# Altium footprint library FootPrintLib_5.PCBLIB: 254 footprints (part 5 of 16)
Each footprint in its own frame and in the unit in brackets; x right, y up, seen from the top. Pads: shape width x height; smd on the part's side, far side on the other; paste and mask are expansions set on the pad; w line width, h text height; cw(c..) or ccw(c..) is an arc to the next point about the centre after c.
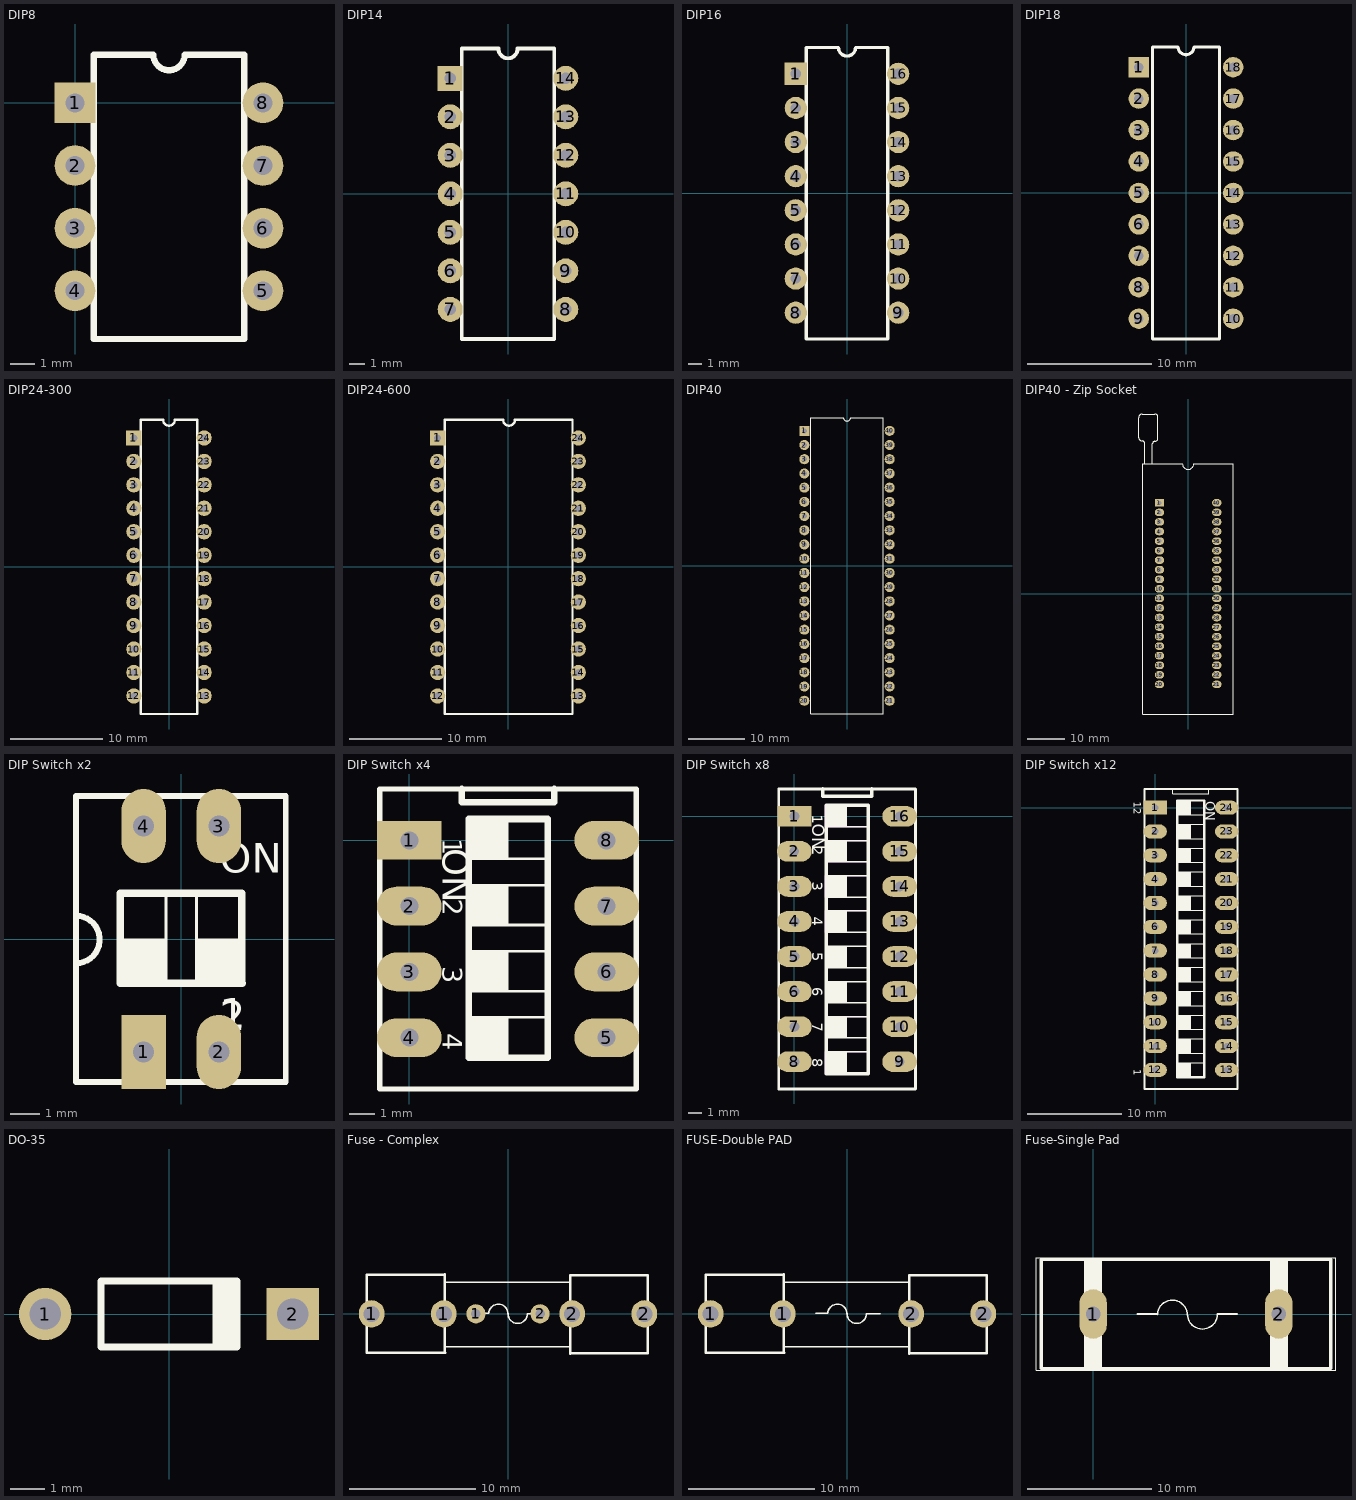
[diagram p4: the footprints below, top view; thin cyan lines are the x and y axes]

## DIP8 [mil]
pads (8):
  rect 65x65 hole 30: 1(0,0)
  round 65 hole 30: 2(0,-100) 3(0,-200) 4(0,-300) 5(300,-300) 6(300,-200) 7(300,-100) 8(300,0)
Top Overlay:
  lines w10: 30,-377 270,-377 270,77 175,77 cw(c150,77) 125,77 30,77 30,-377
3D body "SW3DPS-DIP8-DEFAULT.step": height 165, standoff -105, extent -5,-375 305,75

## DIP14 [mil]
pads (14):
  rect 65x65 hole 30: 1(-150,300)
  round 65 hole 30: 2(-150,200) 3(-150,100) 4(-150,0) 5(-150,-100) 6(-150,-200) 7(-150,-300) 8(150,-300) 9(150,-200) 10(150,-100) 11(150,0) 12(150,100) 13(150,200) 14(150,300)
Top Overlay:
  lines w10: -120,-377 120,-377 120,377 25,377 cw(c0,377) -25,377 -120,377 -120,-377
3D body "SW3dPS-DIP14-300.step": height 200, standoff -98.03, extent -154.92,-383.86 154.92,383.86

## DIP16 [mil]
pads (16):
  rect 65x65 hole 30: 1(-150,350)
  round 65 hole 30: 2(-150,250) 3(-150,150) 4(-150,50) 5(-150,-50) 6(-150,-150) 7(-150,-250) 8(-150,-350) 9(150,-350) 10(150,-250) 11(150,-150) 12(150,-50) 13(150,50) 14(150,150) 15(150,250) 16(150,350)
Top Overlay:
  lines w10: -120,-427 120,-427 120,427 25,427 cw(c0,427) -25,427 -120,427 -120,-427
3D body "SW3dPS-DIP16-300.step": height 200, standoff -98.03, extent -154.92,-393.7 154.92,393.7

## DIP18 [mil]
pads (18):
  rect 65x65 hole 30: 1(-150,400)
  round 65 hole 30: 2(-150,300) 3(-150,200) 4(-150,100) 5(-150,0) 6(-150,-100) 7(-150,-200) 8(-150,-300) 9(-150,-400) 10(150,-400) 11(150,-300) 12(150,-200) 13(150,-100) 14(150,0) 15(150,100) 16(150,200) 17(150,300) 18(150,400)
Top Overlay:
  lines w10: -106.3,-464.57 106.3,-464.57 106.3,464.57 25,464.57 cw(c0,464.57) -25,464.57 -106.3,464.57 -106.3,-464.57
3D body "SW3dPS-DIP18-300.step": height 200, standoff -98.03, extent -154.92,-452.56 154.92,452.56

## DIP24-300 [mil]
pads (24):
  rect 65x65 hole 30: 1(-150,550)
  round 65 hole 30: 2(-150,450) 3(-150,350) 4(-150,250) 5(-150,150) 6(-150,50) 7(-150,-50) 8(-150,-150) 9(-150,-250) 10(-150,-350) 11(-150,-450) 12(-150,-550) 13(150,-550) 14(150,-450) 15(150,-350) 16(150,-250) 17(150,-150) 18(150,-50) 19(150,50) 20(150,150) 21(150,250) 22(150,350) 23(150,450) 24(150,550)
Top Overlay:
  lines w10: -120,-627 120,-627 120,627 25,627 cw(c0,627) -25,627 -120,627 -120,-627
3D body "SW3dPS-DIP24-300.step": height 200, standoff -98.03, extent -154.92,-635.04 154.92,635.04

## DIP24-600 [mil]
pads (24):
  rect 65x65 hole 30: 1(-300,550)
  round 65 hole 30: 2(-300,450) 3(-300,350) 4(-300,250) 5(-300,150) 6(-300,50) 7(-300,-50) 8(-300,-150) 9(-300,-250) 10(-300,-350) 11(-300,-450) 12(-300,-550) 13(300,-550) 14(300,-450) 15(300,-350) 16(300,-250) 17(300,-150) 18(300,-50) 19(300,50) 20(300,150) 21(300,250) 22(300,350) 23(300,450) 24(300,550)
Top Overlay:
  lines w10: -21.47,627 -270,627 -270,-627 275,-627 275,627 29.47,627 cw(c4.47,626.98) -20.53,626.98
3D body "SW3dPS-DIP24-600.step": height 224.41, standoff -101.57, extent -304.92,-635.04 304.92,635.04

## DIP40 [mm]
pads (40):
  rect 1.8x1.8 hole 0.9: 1(-7.62,24.13)
  round 1.8 hole 0.9: 2(-7.62,21.59) 3(-7.62,19.05) 4(-7.62,16.51) 5(-7.62,13.97) 6(-7.62,11.43) 7(-7.62,8.89) 8(-7.62,6.35) 9(-7.62,3.81) 10(-7.62,1.27) 11(-7.62,-1.27) 12(-7.62,-3.81) 13(-7.62,-6.35) 14(-7.62,-8.89) 15(-7.62,-11.43) 16(-7.62,-13.97) 17(-7.62,-16.51) 18(-7.62,-19.05) 19(-7.62,-21.59) 20(-7.62,-24.13) 21(7.62,-24.13) 22(7.62,-21.59) 23(7.62,-19.05) 24(7.62,-16.51) 25(7.62,-13.97) 26(7.62,-11.43) 27(7.62,-8.89) 28(7.62,-6.35) 29(7.62,-3.81) 30(7.62,-1.27) 31(7.62,1.27) 32(7.62,3.81) 33(7.62,6.35) 34(7.62,8.89) 35(7.62,11.43) 36(7.62,13.97) 37(7.62,16.51) 38(7.62,19.05) 39(7.62,21.59) 40(7.62,24.13)
Top Overlay:
  lines w0.2: -6.45,-26.5 -6.45,26.5 -0.635,26.5 ccw(c0,26.5) 0.635,26.5 6.45,26.5 6.45,-26.5 -6.45,-26.5
3D body "SW3dPS-DIP40-600.step": height 5.7, standoff -2.58, extent -7.745,-26.225 7.745,26.225

## DIP40 - Zip Socket [mm]
pads (40):
  rect 2.5x2 hole 1.1: 1(-7.62,24.13)
  oval 2.5x2 hole 1.1: 2(-7.62,21.59) 3(-7.62,19.05) 4(-7.62,16.51) 5(-7.62,13.97) 6(-7.62,11.43) 7(-7.62,8.89) 8(-7.62,6.35) 9(-7.62,3.81) 10(-7.62,1.27) 11(-7.62,-1.27) 12(-7.62,-3.81) 13(-7.62,-6.35) 14(-7.62,-8.89) 15(-7.62,-11.43) 16(-7.62,-13.97) 17(-7.62,-16.51) 18(-7.62,-19.05) 19(-7.62,-21.59) 20(-7.62,-24.13) 21(7.62,-24.13) 22(7.62,-21.59) 23(7.62,-19.05) 24(7.62,-16.51) 25(7.62,-13.97) 26(7.62,-11.43) 27(7.62,-8.89) 28(7.62,-6.35) 29(7.62,-3.81) 30(7.62,-1.27) 31(7.62,1.27) 32(7.62,3.81) 33(7.62,6.35) 34(7.62,8.89) 35(7.62,11.43) 36(7.62,13.97) 37(7.62,16.51) 38(7.62,19.05) 39(7.62,21.59) 40(7.62,24.13)
Top Overlay:
  lines w0.2: -11.557,34.5 -11.557,39.903 ccw(c-12.243,39.903) -12.243,40.589 cw(c-12.243,41.478) -13.132,41.478 -13.132,46.812 cw(c-12.198,46.812) -12.198,47.746 -8.808,47.746 cw(c-8.808,46.965) -8.026,46.965 -8.026,41.269 cw(c-8.808,41.269) -8.808,40.488 ccw(c-8.808,39.795) -9.5,39.795 -9.5,34.5 ; -12,-32 12,-32 12,34.5 1.5,34.5 cw(c0,34.5) -1.5,34.5 -12,34.5 -12,-32
3D body "Zif-Zip Socket.STEP": height 21.95, standoff -2.53, extent -12.975,-31.475 11.501,41.579

## DIP Switch x2 [mm]
height 6.5
pads (4):
  rect 1.5x2.5 hole 0.7: 1(-1.27,-3.81)
  oval 1.5x2.5 hole 0.7: 2(1.27,-3.81) 3(1.27,3.81) 4(-1.27,3.81)
Top Overlay:
  region: 2.056,-1.5 2.056,0.025 0.5,0.025 0.5,-1.5
  region: -0.494,-1.5 -0.494,0.025 -2.05,0.025 -2.05,-1.5
  lines w0.1: -0.51,-1.47 -0.51,1.55 ; 0.51,-1.47 0.51,1.55
  lines w0.2: -3.55,-0.818 ccw(c-3.55,-0.018) -3.55,0.783 ; 3.5,-4.82 -3.55,-4.82 -3.55,4.83 3.5,4.83 ; 3.525,-4.82 3.525,4.83
  lines w0.25: 2.04,-1.47 2.04,1.55
  lines w0.254: 2.04,1.55 -2.05,1.55 -2.05,-1.5 2.056,-1.5
  text "2" at 1.295,-3.08 h1
  text "1" at 1.295,-3 h1
  text "ON" at 1.295,2.23 h1
3D body "dip2.STEP": height 6.91, standoff -1.79, extent -3.25,-5.03 3.25,4.97

## DIP Switch x4 [mm]
height 6.5
pads (8):
  rect 2.5x1.5 hole 0.7: 1(0,0)
  oval 2.5x1.5 hole 0.7: 2(0,-2.54) 3(0,-5.08) 4(0,-7.62) 5(7.62,-7.62) 6(7.62,-5.08) 7(7.62,-2.54) 8(7.62,0)
Top Overlay:
  rectangle: 2.297,-0.734 3.822,0.822
  rectangle: 2.297,-3.284 3.822,-1.728
  rectangle: 2.297,-5.84 3.822,-4.284
  rectangle: 2.297,-8.394 3.822,-6.838
  lines w0.1: 2.327,-6.828 5.347,-6.828 ; 2.327,-5.828 5.347,-5.828 ; 2.327,-4.288 5.347,-4.288 ; 2.327,-3.268 5.347,-3.268 ; 2.327,-1.738 5.347,-1.738 ; 2.327,-0.718 5.347,-0.718
  lines w0.2: -1.143,-9.601 -1.143,1.981 8.763,1.981 8.763,-9.601 -1.143,-9.601
  lines w0.25: 2.297,-8.394 5.347,-8.388
  lines w0.254: 2.032,1.981 2.032,1.473 5.588,1.473 5.588,1.981 ; 2.297,-8.394 2.297,0.822 5.347,0.822 5.347,-8.388
  text "ON" at 1.295,-0.313 h1
  text "1" at 1.295,0.076 h0.76
  text "2" at 1.295,-2.261 h0.76
  text "3" at 1.295,-4.853 h0.76
  text "4" at 1.295,-7.444 h0.76
Mechanical 1:
  circle w0.025: c7.62,0 r0.254
  circle w0.025: c7.62,-2.54 r0.254
  circle w0.025: c7.62,-5.08 r0.254
  circle w0.025: c7.62,-7.62 r0.254
  circle w0.025: c0,-7.62 r0.254
  circle w0.025: c0,-5.08 r0.254
  circle w0.025: c-0.01,-2.54 r0.254
  circle w0.025: c0,0 r0.254
3D body: height 6.35, standoff 0.25, extent 2.362,-3.302 3.073,-1.778
3D body: height 5.08, standoff 0.25, extent 3.073,-3.302 5.253,-1.778
3D body: height 5.59, standoff 0, extent 2.362,-4.318 5.253,-3.302
3D body: height 5.59, standoff 0, extent 2.362,-6.858 5.253,-5.842
3D body: height 5.59, standoff 0, extent 2.362,-1.778 5.253,-0.762
3D body: height 5.59, standoff 0, extent 2.362,0.762 5.253,1.473
3D body: height 6.35, standoff 0.25, extent 2.362,-8.382 3.073,-6.858
3D body: height 5.08, standoff 0.25, extent 3.073,-8.382 5.253,-6.858
3D body: height 6.35, standoff 0.25, extent 2.362,-5.842 3.073,-4.318
3D body: height 5.08, standoff 0.25, extent 3.073,-5.842 5.253,-4.318
3D body: height 5.08, standoff 0.25, extent 3.073,-0.762 5.253,0.762
3D body: height 0.25, standoff 0.05, extent -1.143,-9.652 8.763,1.981
3D body: height 5.59, standoff 0, extent -1.143,-9.652 8.763,1.981
3D body: height 3.81, standoff 0, extent 1.9,1.473 5.71,1.981
3D body: height 0.76, standoff 0, extent -0.253,-7.873 0.253,-7.367
3D body: height 0.76, standoff 0, extent -0.253,-5.333 0.253,-4.827
3D body: height 0.76, standoff 0, extent -0.263,-2.793 0.243,-2.287
3D body: height 0.76, standoff 0, extent -0.253,-0.253 0.253,0.253
3D body: height 0.76, standoff 0, extent 7.367,-7.873 7.873,-7.367
3D body: height 0.76, standoff 0, extent 7.367,-5.333 7.873,-4.827
3D body: height 0.76, standoff 0, extent 7.367,-2.793 7.873,-2.287
3D body: height 0.76, standoff 0, extent 7.367,-0.253 7.873,0.253
3D body: height 6.35, standoff 0.25, extent 2.362,-0.762 3.073,0.762
3D body: height 5.59, standoff 0.25, extent 5.986,-2.3 7.537,-0.734
3D body: height 5.59, standoff 0.03, extent 6.06,-0.189 7.478,0.618
3D body: height 5.59, standoff 0.25, extent 5.975,-0.597 7.55,1.021

## DIP Switch x8 [mm]
height 6.5
pads (16):
  rect 2.5x1.5 hole 0.7: 1(0,0)
  oval 2.5x1.5 hole 0.7: 2(-0.01,-2.54) 3(0,-5.08) 4(0,-7.62) 5(0,-10.16) 6(0,-12.7) 7(0,-15.24) 8(0,-17.78) 9(7.62,-17.78) 10(7.62,-15.24) 11(7.62,-12.7) 12(7.62,-10.16) 13(7.62,-7.62) 14(7.62,-5.08) 15(7.62,-2.54) 16(7.62,0)
Top Overlay:
  rectangle: 2.297,-0.759 3.822,0.797
  rectangle: 2.297,-3.309 3.822,-1.753
  rectangle: 2.297,-5.866 3.822,-4.309
  rectangle: 2.297,-8.419 3.822,-6.863
  rectangle: 2.297,-10.969 3.822,-9.413
  rectangle: 2.297,-13.519 3.822,-11.963
  rectangle: 2.297,-16.079 3.822,-14.523
  rectangle: 2.297,-18.629 3.822,-17.073
  lines w0.1: 2.327,-17.073 5.347,-17.073 ; 2.327,-16.063 5.347,-16.063 ; 2.327,-14.533 5.347,-14.533 ; 2.327,-13.503 5.347,-13.503 ; 2.327,-11.973 5.347,-11.973 ; 2.327,-10.963 5.347,-10.963 ; 2.327,-9.423 5.347,-9.423 ; 2.327,-8.413 5.347,-8.413 ; 2.327,-6.853 5.347,-6.853 ; 2.327,-5.853 5.347,-5.853 ; 2.327,-4.313 5.347,-4.313 ; 2.327,-3.293 5.347,-3.293 ; 2.327,-1.763 5.347,-1.763 ; 2.327,-0.743 5.347,-0.743
  lines w0.2: -1.143,-19.761 8.763,-19.761 8.763,1.981 -1.143,1.981 -1.143,-19.761
  lines w0.254: 2.032,1.981 2.032,1.473 5.588,1.473 5.588,1.981 ; 2.297,-18.653 2.297,0.797 5.347,0.797 5.347,-18.653 2.297,-18.653
  text "ON" at 1.295,-0.542 h0.89
  text "1" at 1.295,0.101 h0.76
  text "2" at 1.295,-2.163 h0.76
  text "3" at 1.295,-4.723 h0.76
  text "4" at 1.295,-7.284 h0.76
  text "5" at 1.295,-9.844 h0.76
  text "6" at 1.295,-12.405 h0.76
  text "7" at 1.295,-14.965 h0.76
  text "8" at 1.295,-17.526 h0.76
Mechanical 1:
  circle w0.025: c0,0 r0.254
  circle w0.025: c7.62,0 r0.254
  circle w0.025: c7.62,-2.54 r0.254
  circle w0.025: c-0.01,-2.54 r0.254
  circle w0.025: c0,-5.08 r0.254
  circle w0.025: c7.62,-5.08 r0.254
  circle w0.025: c7.62,-7.62 r0.254
  circle w0.025: c0,-7.62 r0.254
  circle w0.025: c0,-10.16 r0.254
  circle w0.025: c7.62,-10.16 r0.254
  circle w0.025: c7.62,-12.7 r0.254
  circle w0.025: c0,-12.7 r0.254
  circle w0.025: c0,-15.24 r0.254
  circle w0.025: c7.62,-15.24 r0.254
  circle w0.025: c7.62,-17.78 r0.254
  circle w0.025: c0,-17.78 r0.254
  lines w0.025: 5.309,-11.938 5.309,-13.487 2.261,-13.487 2.261,-11.938 5.359,-11.938 ; 5.309,-6.833 5.309,-8.407 2.235,-8.407 2.235,-6.833 5.359,-6.833 ; 5.334,-17.069 5.334,-18.694 2.235,-18.694 2.235,-17.069 5.359,-17.069 ; 5.334,-14.529 2.261,-14.529 2.261,-16.027 5.359,-16.027 5.359,-14.529 ; 5.334,-4.318 5.334,-5.867 2.235,-5.867 2.235,-4.318 5.359,-4.318 ; 5.334,-0.762 5.41,-0.762 5.41,0.813 2.235,0.813 2.235,-0.762 5.359,-0.762 ; 5.359,-9.423 5.359,-10.947 2.261,-10.947 2.261,-9.423 5.385,-9.423 ; -1.143,-19.761 8.763,-19.761 8.763,1.981 -1.143,1.981 -1.143,-19.761 ; 2.032,1.473 5.588,1.473 5.588,1.981 2.032,1.981 2.032,1.473 ; 2.261,-3.302 5.334,-3.302 5.334,-1.778 2.261,-1.778 2.261,-3.302
3D body: height 5.59, standoff 0, extent 2.235,-19.761 5.41,-18.693
3D body: height 5.59, standoff 0, extent 2.236,-17.069 5.411,-16.154
3D body: height 5.59, standoff 0, extent 2.261,-14.529 5.436,-13.487
3D body: height 5.59, standoff 0, extent 2.262,-11.938 5.437,-11.048
3D body: height 5.59, standoff 0, extent 2.236,-9.423 5.411,-8.407
3D body: height 5.59, standoff 0, extent 2.236,-6.832 5.411,-5.866
3D body: height 5.59, standoff 0, extent 2.236,-4.318 5.411,-3.403
3D body: height 5.59, standoff 0, extent 2.235,-1.778 5.41,-0.762
3D body: height 5.59, standoff 0, extent 2.235,0.813 5.41,1.473
3D body: height 5.59, standoff 0, extent 5.41,-19.761 8.763,1.981
3D body: height 5.59, standoff 0, extent -1.143,-19.761 2.236,1.981
3D body: height 3.81, standoff 0, extent 2.032,1.473 5.613,1.981
3D body: height 0.76, standoff 0, extent 7.367,-2.793 7.873,-2.287
3D body: height 0.76, standoff 0, extent 7.367,-5.333 7.873,-4.827
3D body: height 0.76, standoff 0, extent 7.367,-7.873 7.873,-7.367
3D body: height 0.76, standoff 0, extent 7.367,-0.253 7.873,0.253
3D body: height 0.76, standoff 0, extent 7.367,-18.033 7.873,-17.527
3D body: height 0.76, standoff 0, extent 7.367,-12.953 7.873,-12.447
3D body: height 0.76, standoff 0, extent 7.367,-15.493 7.873,-14.987
3D body: height 5.08, standoff 0, extent 2.236,-5.866 5.334,-4.318
3D body: height 0.76, standoff 0, extent -0.253,-0.253 0.253,0.253
3D body: height 0.76, standoff 0, extent -0.263,-2.793 0.243,-2.287
3D body: height 0.76, standoff 0, extent -0.253,-5.333 0.253,-4.827
3D body: height 0.76, standoff 0, extent -0.253,-7.873 0.253,-7.367
3D body: height 5.08, standoff 0, extent 2.339,-8.405 5.411,-6.832
3D body: height 5.08, standoff 0, extent 2.26,-16.028 5.36,-14.528
3D body: height 5.08, standoff 0, extent 2.313,-18.693 5.411,-17.069
3D body: height 0.76, standoff 0, extent -0.253,-10.413 0.253,-9.907
3D body: height 0.76, standoff 0, extent -0.253,-12.953 0.253,-12.447
3D body: height 0.76, standoff 0, extent -0.253,-15.493 0.253,-14.987
3D body: height 0.76, standoff 0, extent -0.253,-18.033 0.253,-17.527
3D body: height 5.08, standoff 0, extent 2.338,-16.153 5.436,-14.529
3D body: height 5.08, standoff 0, extent 2.339,-13.563 5.437,-11.938
3D body: height 5.08, standoff 0, extent 2.262,-11.048 5.359,-9.423
3D body: height 5.08, standoff 0, extent 2.312,-3.403 5.41,-1.778
3D body: height 5.08, standoff 0, extent 2.312,-0.812 5.41,0.813
3D body: height 6.35, standoff 0, extent 2.235,-0.812 3.759,0.813
3D body: height 6.35, standoff 0, extent 2.261,-3.403 3.785,-1.778
3D body: height 6.35, standoff 0, extent 2.236,-5.943 3.76,-4.318
3D body: height 6.35, standoff 0, extent 2.236,-8.457 3.76,-6.833
3D body: height 6.35, standoff 0, extent 2.262,-11.048 3.786,-9.423
3D body: height 6.35, standoff 0, extent 2.261,-13.563 3.785,-11.938
3D body: height 6.35, standoff 0, extent 2.236,-16.154 3.76,-14.529
3D body: height 6.35, standoff 0, extent 2.235,-18.693 3.759,-17.069

## DIP Switch x12 [mm]
pads (24):
  rect 2.5x1.5 hole 0.7: 1(0,0)
  oval 2.5x1.5 hole 0.7: 2(0,-2.54) 3(0,-5.08) 4(0,-7.62) 5(0,-10.16) 6(0,-12.7) 7(0,-15.24) 8(0,-17.78) 9(0,-20.32) 10(0,-22.86) 11(0,-25.4) 12(0,-27.94) 13(7.62,-27.94) 14(7.62,-25.4) 15(7.62,-22.86) 16(7.62,-20.32) 17(7.62,-17.78) 18(7.62,-15.24) 19(7.62,-12.7) 20(7.62,-10.16) 21(7.62,-7.62) 22(7.62,-5.08) 23(7.62,-2.54) 24(7.62,0)
Top Overlay:
  region: 3.808,-27.178 2.362,-27.178 2.362,-28.702 3.808,-28.702
  region: 3.808,-24.638 2.362,-24.638 2.362,-26.162 3.808,-26.162
  region: 3.808,-22.098 2.362,-22.098 2.362,-23.622 3.808,-23.622
  region: 3.808,-19.558 2.362,-19.558 2.362,-21.082 3.808,-21.082
  region: 3.808,-17.018 2.362,-17.018 2.362,-18.542 3.808,-18.542
  region: 3.808,-14.478 2.362,-14.478 2.362,-16.002 3.808,-16.002
  region: 3.808,-11.938 2.362,-11.938 2.362,-13.462 3.808,-13.462
  region: 3.808,-9.398 2.362,-9.398 2.362,-10.922 3.808,-10.922
  region: 3.808,-6.858 2.362,-6.858 2.362,-8.382 3.808,-8.382
  region: 3.808,-4.318 2.362,-4.318 2.362,-5.842 3.808,-5.842
  region: 3.808,-1.778 2.362,-1.778 2.362,-3.302 3.808,-3.302
  region: 3.808,0.762 2.362,0.762 2.362,-0.762 3.808,-0.762
  lines w0.1: 2.362,-28.702 5.253,-28.702 ; 2.362,-27.178 5.253,-27.178 ; 2.362,-26.162 5.253,-26.162 ; 2.362,-24.638 5.253,-24.638 ; 2.362,-23.622 5.253,-23.622 ; 2.362,-22.098 5.253,-22.098 ; 2.362,-21.082 5.253,-21.082 ; 2.362,-19.558 5.253,-19.558 ; 2.362,-18.542 5.253,-18.542 ; 2.362,-17.018 5.253,-17.018 ; 2.362,-16.002 5.253,-16.002 ; 2.362,-14.478 5.253,-14.478 ; 2.362,-13.462 5.253,-13.462 ; 2.362,-11.938 5.253,-11.938 ; 2.362,-10.922 5.253,-10.922 ; 2.362,-9.398 5.253,-9.398 ; 2.362,-8.382 5.253,-8.382 ; 2.362,-6.858 5.253,-6.858 ; 2.362,-5.842 5.253,-5.842 ; 2.362,-4.318 5.253,-4.318 ; 2.362,-3.302 5.253,-3.302 ; 2.362,-1.778 5.253,-1.778 ; 2.362,-0.762 5.253,-0.762
  lines w0.127: 1.9,1.981 1.9,1.473 5.71,1.473 5.71,1.981
  lines w0.2: -1.143,-29.972 8.763,-29.972 8.763,1.981 -1.143,1.981 -1.143,-29.972
  lines w0.254: 2.362,-28.702 2.362,0.762 5.253,0.762 5.253,-28.702 2.362,-28.702
  text "1" at -2.286,-27.864 h0.76
  text "12" at -2.286,0.61 h0.76
  text "ON" at 5.399,0.673 h1
Mechanical 1:
  circle w0.025: c7.62,0 r0.254
  circle w0.025: c7.62,-2.54 r0.254
  circle w0.025: c7.62,-5.08 r0.254
  circle w0.025: c7.62,-7.62 r0.254
  circle w0.025: c0,-7.62 r0.254
  circle w0.025: c0,-5.08 r0.254
  circle w0.025: c-0.01,-2.54 r0.254
  circle w0.025: c0,0 r0.254
  circle w0.025: c0,-10.16 r0.254
  circle w0.025: c7.62,-10.16 r0.254
  circle w0.025: c7.62,-12.7 r0.254
  circle w0.025: c0,-12.7 r0.254
  circle w0.025: c0,-15.24 r0.254
  circle w0.025: c7.62,-17.78 r0.254
  circle w0.025: c0,-17.78 r0.254
3D body: height 5.59, standoff 0, extent 2.362,-27.178 5.253,-26.162
3D body: height 5.08, standoff 0.25, extent 3.073,-28.702 5.253,-27.178
3D body: height 6.35, standoff 0.25, extent 2.362,-28.702 3.073,-27.178
3D body: height 5.59, standoff 0, extent 2.362,-24.638 5.253,-23.622
3D body: height 5.08, standoff 0.25, extent 3.073,-26.162 5.253,-24.638
3D body: height 6.35, standoff 0.25, extent 2.362,-26.162 3.073,-24.638
3D body: height 5.59, standoff 0, extent 2.362,-22.098 5.253,-21.082
3D body: height 5.08, standoff 0.25, extent 3.073,-23.622 5.253,-22.098
3D body: height 6.35, standoff 0.25, extent 2.362,-23.622 3.073,-22.098
3D body: height 5.59, standoff 0, extent 2.362,-19.558 5.253,-18.542
3D body: height 5.08, standoff 0.25, extent 3.073,-21.082 5.253,-19.558
3D body: height 6.35, standoff 0.25, extent 2.362,-21.082 3.073,-19.558
3D body: height 5.59, standoff 0, extent 2.362,-17.018 5.253,-16.002
3D body: height 5.08, standoff 0.25, extent 3.073,-18.542 5.253,-17.018
3D body: height 6.35, standoff 0.25, extent 2.362,-18.542 3.073,-17.018
3D body: height 5.59, standoff 0, extent 2.362,-14.478 5.253,-13.462
3D body: height 5.08, standoff 0.25, extent 3.073,-16.002 5.253,-14.478
3D body: height 6.35, standoff 0.25, extent 2.362,-16.002 3.073,-14.478
3D body: height 5.59, standoff 0, extent 2.362,-11.938 5.253,-10.922
3D body: height 5.08, standoff 0.25, extent 3.073,-13.462 5.253,-11.938
3D body: height 6.35, standoff 0.25, extent 2.362,-13.462 3.073,-11.938
3D body: height 5.59, standoff 0, extent 2.362,-9.398 5.253,-8.382
3D body: height 5.08, standoff 0.25, extent 3.073,-10.922 5.253,-9.398
3D body: height 6.35, standoff 0.25, extent 2.362,-10.922 3.073,-9.398
3D body: height 6.35, standoff 0.25, extent 2.362,-3.302 3.073,-1.778
3D body: height 5.08, standoff 0.25, extent 3.073,-3.302 5.253,-1.778
3D body: height 5.59, standoff 0, extent 2.362,-4.318 5.253,-3.302
3D body: height 5.59, standoff 0, extent 2.362,-6.858 5.253,-5.842
3D body: height 5.59, standoff 0, extent 2.362,-1.778 5.253,-0.762
3D body: height 5.59, standoff 0, extent 2.362,0.762 5.253,1.473
3D body: height 6.35, standoff 0.25, extent 2.362,-8.382 3.073,-6.858
3D body: height 5.08, standoff 0.25, extent 3.073,-8.382 5.253,-6.858
3D body: height 6.35, standoff 0.25, extent 2.362,-5.842 3.073,-4.318
3D body: height 5.08, standoff 0.25, extent 3.073,-5.842 5.253,-4.318
3D body: height 5.08, standoff 0.25, extent 3.073,-0.762 5.253,0.762
3D body: height 0.25, standoff 0.05, extent -1.143,-29.972 8.763,1.981
3D body: height 5.59, standoff 0, extent -1.143,-29.972 8.763,1.981
3D body: height 3.81, standoff 0, extent 1.9,1.473 5.71,1.981
3D body: height 0.76, standoff 0, extent -0.253,-7.873 0.253,-7.367
3D body: height 0.76, standoff 0, extent -0.253,-5.333 0.253,-4.827
3D body: height 0.76, standoff 0, extent -0.263,-2.793 0.243,-2.287
3D body: height 0.76, standoff 0, extent -0.253,-0.253 0.253,0.253
3D body: height 0.76, standoff 0, extent 7.367,-7.873 7.873,-7.367
3D body: height 0.76, standoff 0, extent 7.367,-5.333 7.873,-4.827
3D body: height 0.76, standoff 0, extent 7.367,-2.793 7.873,-2.287
3D body: height 0.76, standoff 0, extent 7.367,-0.253 7.873,0.253
3D body: height 6.35, standoff 0.25, extent 2.362,-0.762 3.073,0.762
3D body: height 0.76, standoff 0, extent 7.367,-15.493 7.873,-14.987
3D body: height 0.76, standoff 0, extent 7.367,-18.033 7.873,-17.527
3D body: height 0.76, standoff 0, extent 7.367,-12.953 7.873,-12.447
3D body: height 0.76, standoff 0, extent -0.253,-10.413 0.253,-9.907
3D body: height 0.76, standoff 0, extent -0.253,-12.953 0.253,-12.447
3D body: height 0.76, standoff 0, extent -0.253,-15.493 0.253,-14.987
3D body: height 0.76, standoff 0, extent -0.253,-18.033 0.253,-17.527
3D body: height 0.76, standoff 0, extent -0.253,-20.573 0.253,-20.067
3D body: height 0.76, standoff 0, extent -0.253,-23.113 0.253,-22.607
3D body: height 0.76, standoff 0, extent -0.253,-25.653 0.253,-25.147
3D body: height 0.76, standoff 0, extent -0.253,-28.193 0.253,-27.687
3D body: height 0.76, standoff 0, extent 7.367,-28.193 7.873,-27.687
3D body: height 0.76, standoff 0, extent 7.367,-25.653 7.873,-25.147
3D body: height 0.76, standoff 0, extent 7.367,-23.113 7.873,-22.607
3D body: height 0.76, standoff 0, extent 7.367,-20.573 7.873,-20.067
3D body: height 5.59, standoff 0.25, extent 6.015,-2.365 7.567,-0.799
3D body: height 5.59, standoff 0.03, extent 6.09,-0.254 7.507,0.554
3D body: height 5.59, standoff 0.25, extent 6.005,-0.662 7.579,0.956

## DO-35 [mm] "Diode, Axial; Body 3.8 x 1.9 mm (LxDia. max), Lead Dia. 0.53 mm (max)"
height 1.9
pads (2):
  round 1.5 hole 0.9: 1(-3.55,0)
  rect 1.5x1.5 hole 0.9: 2(3.55,0)
Top Overlay:
  rectangle: 1.25,-0.95 2.05,0.95
  lines w0.2: 1.95,-0.95 -1.95,-0.95 -1.95,0.95 1.95,0.95
3D body "SW3dPS-do_35.STEP": height 1.89, standoff -2.29, extent -3.816,-0.875 3.816,0.875

## Fuse - Complex [mil]
pads (6):
  oval 80x85 hole 50: 1(-425,0) 1(-200,0) 2(200,0) 2(425,0)
  round 60 hole 30: 1(-100,0) 2(100,0)
Top Overlay:
  lines w3.94: -197.37,99.1 194.69,99.1 ; -197.05,-102 194.69,-102
  lines w5: -97.77,1.22 -59.98,1.22 ; -59.97,1.22 cw(c-30,0) 0,0 ccw(c30,0) 60,0 104.09,0
  lines w7.87: -197.44,122.64 -197.05,0.2 -197.05,-121.06 ; -197.05,122.24 -440,122.24 -440,-121.46 -195.87,-121.46 ; 193.9,-123.43 435,-123.43 435,120.28 198.23,120.28 ; 194.69,-123.82 194.69,119.88
3D body "Fuse Leg_2009.STEP": height 377.88, standoff -129.94, extent 196,-119 436,124.71
3D body "Fuse Small 1A.STEP": height 350.39, standoff 149.61, extent -392,-101 383.59,99.79
3D body "Fuse Leg_2009.STEP": height 377.88, standoff -129.94, extent -434,-121.46 -194,122.25

## FUSE-Double PAD [mil]
pads (4):
  oval 80x85 hole 50: 1(-425,0) 1(-200,0) 2(200,0) 2(425,0)
Top Overlay:
  lines w3.94: -197.37,99.1 194.69,99.1 ; -197.05,-102 194.69,-102
  lines w5: -97.77,1.22 -59.98,1.22 ; -59.97,1.22 cw(c-30,0) 0,0 ccw(c30,0) 60,0 104.09,0
  lines w7.87: -197.44,122.64 -197.05,0.2 -197.05,-121.06 ; -197.05,122.24 -440,122.24 -440,-121.46 -195.87,-121.46 ; 193.9,-123.43 435,-123.43 435,120.28 198.23,120.28 ; 194.69,-123.82 194.69,119.88
3D body "Fuse Leg_2009.STEP": height 377.88, standoff -129.94, extent 196,-119 436,124.71
3D body "Fuse Small 1A.STEP": height 350.39, standoff 149.61, extent -392,-101 383.59,99.79
3D body "Fuse Leg_2009.STEP": height 377.88, standoff -129.94, extent -434,-121.46 -194,122.25

## Fuse-Single Pad [mm]
height 14
pads (2):
  oval 2.2x4 hole 1.2: 1(0,0) 2(15,0)
Top Overlay:
  rectangle: -0.74,-4.4 0.71,4.4
  rectangle: 14.29,-4.4 15.74,4.4
  lines w0.08: -4.62,-4.56 19.62,-4.56 19.62,4.56 -4.62,4.56 -4.62,-4.56
  lines w0.127: 5.178,-0.05 cw(c6.393,-0.1) 7.61,-0.1 ; 7.61,0 ccw(c8.827,0) 10.043,0
  lines w0.2: 3.6,0 5.17,0 ; 10.07,0 11.6,0
  lines w0.254: -4.2,-4.4 19.2,-4.4 19.2,4.4 -4.2,4.4 -4.2,-4.4